# Altium schematic symbol library Module1.SchLib: 21 symbols
Pins are listed as number, name and electrical type; pins without a type are passive.

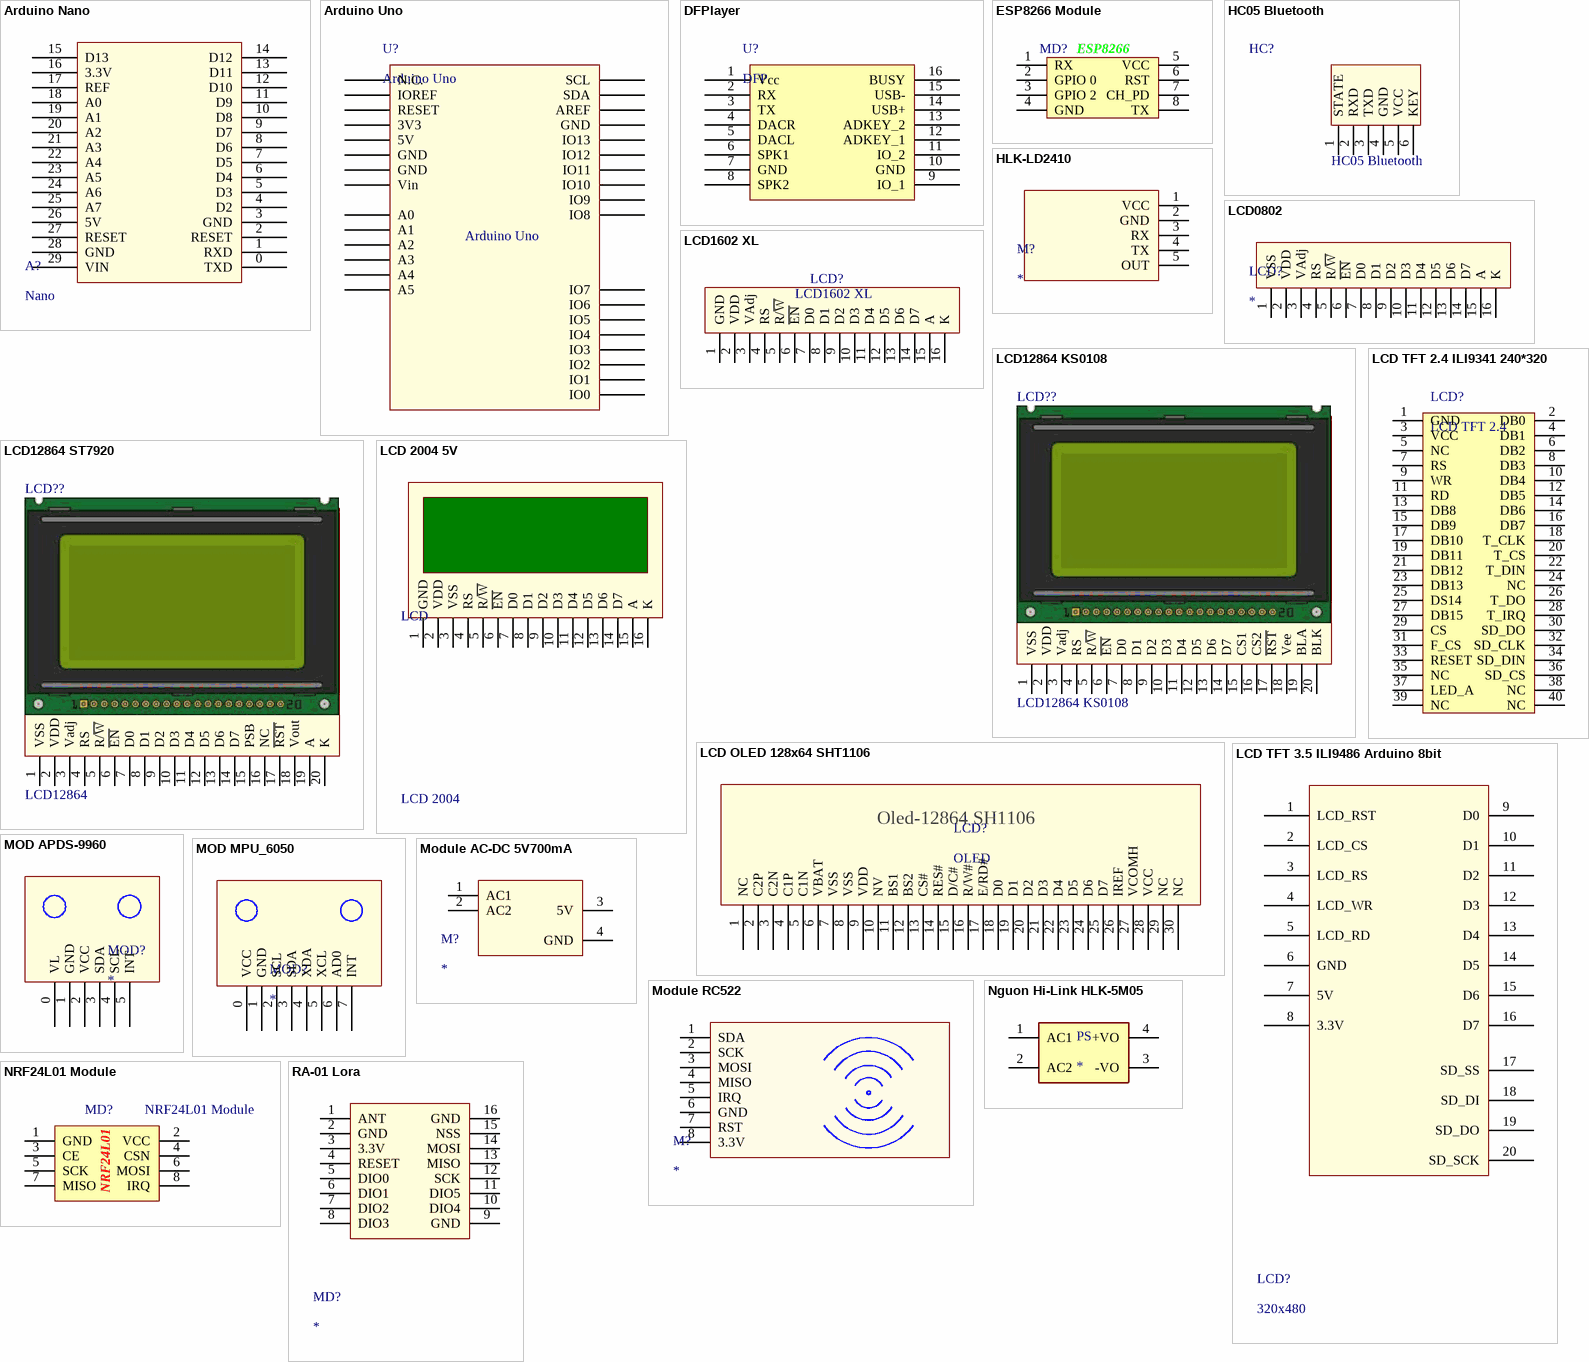
[diagram p0: symbols Arduino Nano to RA-01 Lora]

## Arduino Nano
designator A?, comment Nano
footprint Arduino nano (arduino nano)
pins: 0 TXD, 1 RXD, 2 RESET, 3 GND, 4 D2, 5 D3, 6 D4, 7 D5, 8 D6, 9 D7, 10 D8, 11 D9, 12 D10, 13 D11, 14 D12, 15 D13, 16 3.3V, 17 REF, 18 A0, 19 A1, 20 A2, 21 A3, 22 A4, 23 A5, 24 A6, 25 A7, 26 5V, 27 RESET, 28 GND, 29 VIN

## Arduino Uno
designator U?
footprint Arduino Uno
footprint Arduino Uno Shield
pins: 0 IO0, 1 IO1, 2 IO2, 3 IO3, 3V3, 4 IO4, 5 IO5, 5V, 6 IO6, 7 IO7, 8 IO8, 9 IO9, 10 IO10, 11 IO11, 12 IO12, 13 IO13, A0, A1, A2, A3, A4, A5, AREF, GND1 GND, GND2 GND, GND3 GND, IOREF, NC N.C., RESET, SCL, SDA, Vin

## DFPlayer
designator U?, comment DFP
DFPlayer
footprint DFPlayer
pins: 1 Vcc, 2 RX, 3 TX, 4 DACR, 5 DACL, 6 SPK1, 7 GND, 8 SPK2, 9 IO_1, 10 GND, 11 IO_2, 12 ADKEY_1, 13 ADKEY_2, 14 USB+, 15 USB-, 16 BUSY

## ESP8266 Module
designator MD?  (value not drawn)
footprint ESP2866 Module
pins: 1 RX, 2 GPIO 0, 3 GPIO 2, 4 GND, 5 VCC, 6 RST, 7 CH_PD, 8 TX
text: ESP8266

## HC05 Bluetooth
designator HC?
Bluetooth HC05; Value: Connector 6
footprint HC05 Bluethooth Dung (Connector; Header; 6 Position)
footprint HC05 Bluethooth Nam (Connector; Header; 6 Position)
pins: 1 STATE, 2 RXD, 3 TXD, 4 GND, 5 VCC, 6 KEY

## HLK-LD2410
designator M?
footprint HLK-LD2410
pins: 1 VCC, 2 GND, 3 RX, 4 TX, 5 OUT

## LCD0802
designator LCD?
footprint LCD0802
pins: 1 VSS (power), 2 VDD, 3 VAdj, 4 RS, 5 R/~{W}, 6 ~{EN}, 7 D0, 8 D1, 9 D2, 10 D3, 11 D4, 12 D5, 13 D6, 14 D7, 15 A, 16 K

## LCD1602 XL
designator LCD?
LCD 1602 Xanh Lá; Ten: Màn hình LCD 1602 Xanh Lá; Ma_Hang: 67HZ; NCC: NSHOP; CHIP: HD44780
footprint LCD1602 with Jump (LCD dipslay 16x2, 16 pin)
footprint LCD1602 (LCD dipslay 16x2, 16 pin)
pins: 1 GND, 2 VDD, 3 VAdj, 4 RS, 5 R/~{W}, 6 ~{EN}, 7 D0, 8 D1, 9 D2, 10 D3, 11 D4, 12 D5, 13 D6, 14 D7, 15 A, 16 K

## LCD12864 KS0108
designator LCD??
LCD Graphic 128x64 KS0108; Value: LCD 128x64
footprint LCD128x64 (LCD Graphic 128x64, 20 pin)
pins: 1 VSS, 2 VDD, 3 Vadj, 4 RS, 5 R/~{W}, 6 ~{EN}, 7 D0, 8 D1, 9 D2, 10 D3, 11 D4, 12 D5, 13 D6, 14 D7, 15 CS1, 16 CS2, 17 ~{RST}, 18 Vee, 19 BLA, 20 BLK

## LCD12864 ST7920
designator LCD??, comment LCD12864
LCD Graphic 128x64 ST7920; Value: LCD 128x64
footprint LCD128x64 (LCD Graphic 128x64, 20 pin)
pins: 1 VSS, 2 VDD, 3 Vadj, 4 RS, 5 R/~{W}, 6 ~{EN}, 7 D0, 8 D1, 9 D2, 10 D3, 11 D4, 12 D5, 13 D6, 14 D7, 15 PSB, 16 NC, 17 ~{RST}, 18 Vout, 19 A, 20 K

## LCD 2004 5V
designator LCD, comment LCD 2004
LCD 2004 5V Xanh Dương; Ten: LCD 2004 Xanh Dương; Ma_Hang: WVEZ; CHIP: HD44780; Don Vi Mua: Nshop
footprint LCD 2004 (LCD dipslay 20x4, 16 pin)
pins: 1 GND, 2 VDD, 3 VSS, 4 RS, 5 R/~{W}, 6 ~{EN}, 7 D0, 8 D1, 9 D2, 10 D3, 11 D4, 12 D5, 13 D6, 14 D7, 15 A, 16 K

## LCD OLED 128x64 SHT1106
designator LCD?, comment OLED
LCD OLED 128x64 SHT1106 only sceen
footprint LCD OLED 128x64 SHT1106
pins: 1 NC, 2 C2P, 3 C2N, 4 C1P, 5 C1N, 6 VBAT, 7 VSS, 8 VSS, 9 VDD, 10 NV, 11 BS1, 12 BS2, 13 CS#, 14 RES#, 15 D/C#, 16 R/W#, 17 E/RD#, 18 D0, 19 D1, 20 D2, 21 D3, 22 D4, 23 D5, 24 D6, 25 D7, 26 IREF, 27 VCOMH, 28 VCC, 29 NC, 30 NC
text: Oled-12864 SH1106

## LCD TFT 2.4 ILI9341 240*320
designator LCD?, comment LCD TFT 2.4
ILI9341 Driver
footprint LCD TFT 2.4 240*320 (Connector; Header; 20x2 Position)
pins: 1 GND, 2 DB0, 3 VCC, 4 DB1, 5 NC, 6 DB2, 7 RS, 8 DB3, 9 WR, 10 DB4, 11 RD, 12 DB5, 13 DB8, 14 DB6, 15 DB9, 16 DB7, 17 DB10, 18 T_CLK, 19 DB11, 20 T_CS, 21 DB12, 22 T_DIN, 23 DB13, 24 NC, 25 DS14, 26 T_DO, 27 DB15, 28 T_IRQ, 29 CS, 30 SD_DO, 31 F_CS, 32 SD_CLK, 33 RESET, 34 SD_DIN, 35 NC, 36 SD_CS, 37 LED_A, 38 NC, 39 NC, 40 NC

## LCD TFT 3.5 ILI9486 Arduino 8bit
designator LCD?, comment 320x480
footprint LCD TFT 3.5 8bit Arduino
pins: 1 LCD_RST, 2 LCD_CS, 3 LCD_RS, 4 LCD_WR, 5 LCD_RD, 6 GND, 7 5V, 8 3.3V, 9 D0, 10 D1, 11 D2, 12 D3, 13 D4, 14 D5, 15 D6, 16 D7, 17 SD_SS, 18 SD_DI, 19 SD_DO, 20 SD_SCK

## MOD APDS-9960
designator MOD?
footprint MOD APDS-9960
pins: 0 VL, 1 GND, 2 VCC, 3 SDA, 4 SCL, 5 INT

## MOD MPU_6050
designator MOD?
footprint MOD MPU-6050
pins: 0 VCC, 1 GND, 2 SCL, 3 SDA, 4 XDA, 5 XCL, 6 AD0, 7 INT

## Module AC-DC 5V700mA
designator M?
pins: 1 AC1, 2 AC2, 3 5V, 4 GND

## Module RC522
designator M?
footprint Module RC522
pins: 1 SDA, 2 SCK, 3 MOSI, 4 MISO, 5 IRQ, 6 GND, 7 RST, 8 3.3V

## Nguon Hi-Link HLK-5M05
designator PS
AC DC 220V to 5V 5W 5Watt Isolated Switching Step-Down Power Supply Module Converter; MF: Hi-link; MP: HLK-5M05; Availability: Unavailable; SnapEDA_Link: https://www.snapeda.com/parts/HLK-5M05/Hi-link/view-part/2758659/?ref=snap; Price: None; Package: Package Analog Devices; Value: *
footprint Nguon HI-LINK 5M05
pins: 1 AC1, 2 AC2, 3 -VO, 4 +VO

## NRF24L01 Module
designator MD?
footprint NRF24L01
pins: 1 GND, 2 VCC, 3 CE, 4 CSN, 5 SCK, 6 MOSI, 7 MISO, 8 IRQ
text: NRF24L01

## RA-01 Lora
designator MD?
footprint RA-01
pins: 1 ANT, 2 GND, 3 3.3V, 4 RESET, 5 DIO0, 6 DIO1, 7 DIO2, 8 DIO3, 9 GND, 10 DIO4, 11 DIO5, 12 SCK, 13 MISO, 14 MOSI, 15 NSS, 16 GND